# Altium footprint library Pads.PcbLib: 71 footprints (part 1 of 5)
Each footprint in its own frame and in the unit in brackets; x right, y up, seen from the top. Pads: shape width x height; smd on the part's side, far side on the other; paste and mask are expansions set on the pad; w line width, h text height; cw(c..) or ccw(c..) is an arc to the next point about the centre after c.
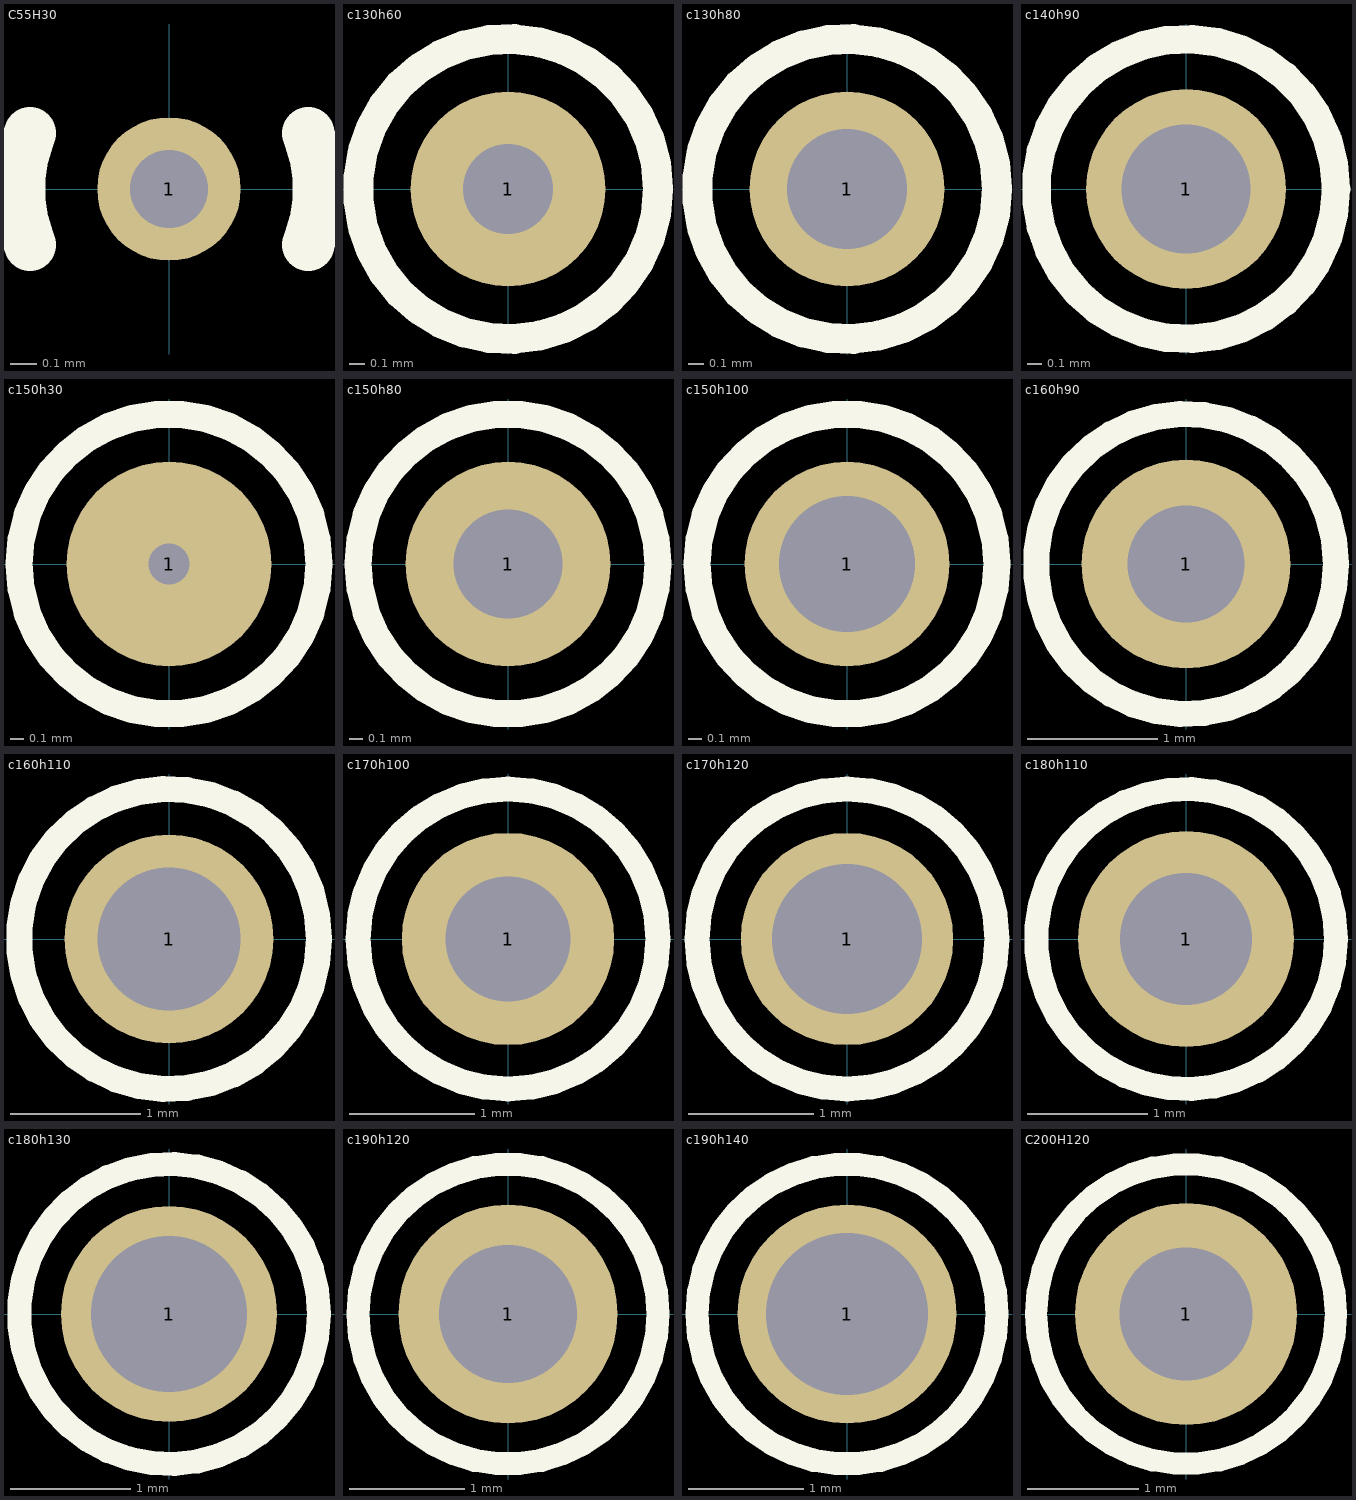
[diagram p0: the footprints below, top view; thin cyan lines are the x and y axes]

## C55H30 [mm] "Plated Through Hole: Hole Dia.=0.3mm Pad Dia.=0.55mm"
pads (1):
  round 0.55 hole 0.3: 1(0,0)
Top Overlay:
  lines w0.2: -0.534,-0.214 cw(c0,0) -0.534,0.214 ; 0.534,-0.214 ccw(c0,0) 0.534,0.214

## c130h60 [mm] "Plated Through Hole: Hole Dia.=0.6mm Pad Dia.=1.30mm"
pads (1):
  round 1.3 hole 0.6: 1(0,0)
Top Overlay:
  circle w0.2: c0,0 r1
Mechanical 14:
  circle w0.1: c0,0 r1

## c130h80 [mm] "Plated Through Hole: Hole Dia.=0.8mm Pad Dia.=1.30mm, , IPC-7251 Level C"
pads (1):
  round 1.3 hole 0.8: 1(0,0)
Top Overlay:
  circle w0.2: c0,0 r1
Mechanical 14:
  circle w0.1: c0,0 r1

## c140h90 [mm] "Plated Through Hole: Hole Dia.=0.9mm Pad Dia.=1.4mm, IPC-7251 Level C"
pads (1):
  round 1.4 hole 0.9: 1(0,0)
Top Overlay:
  circle w0.2: c0,0 r1.05
Mechanical 14:
  circle w0.1: c0,0 r1.05

## c150h30 [mm] "Plated Through Hole: Hole Dia.=0.3mm Pad Dia.=1.5mm"
pads (1):
  round 1.5 hole 0.3: 1(0,0)
Top Overlay:
  circle w0.2: c0,0 r1.1
Mechanical 14:
  circle w0.1: c0,0 r1.1

## c150h80 [mm] "Plated Through Hole: Hole Dia.=0.8mm Pad Dia.=1.50mm, , IPC-7251 Level A"
pads (1):
  round 1.5 hole 0.8: 1(0,0)
Top Overlay:
  circle w0.2: c0,0 r1.1
Mechanical 14:
  circle w0.1: c0,0 r1.1

## c150h100 [mm] "Plated Through Hole: Hole Dia.=1mm Pad Dia.=1.5mm, IPC-7251 Level C"
pads (1):
  round 1.5 hole 1: 1(0,0)
Top Overlay:
  circle w0.2: c0,0 r1.1
Mechanical 14:
  circle w0.1: c0,0 r1.1

## c160h90 [mm] "Plated Through Hole: Hole Dia.=0.9mm Pad Dia.=1.6mm, IPC-7251 Level A"
pads (1):
  round 1.6 hole 0.9: 1(0,0)
Top Overlay:
  circle w0.2: c0,0 r1.15
Mechanical 14:
  circle w0.1: c0,0 r1.15

## c160h110 [mm] "Plated Through Hole: Hole Dia.=1.1mm Pad Dia.=1.6mm, IPC-7251 Level C"
pads (1):
  round 1.6 hole 1.1: 1(0,0)
Top Overlay:
  circle w0.2: c0,0 r1.15
Mechanical 14:
  circle w0.1: c0,0 r1.15

## c170h100 [mm] "Plated Through Hole: Hole Dia.=1mm Pad Dia.=1.7mm, IPC-7251 Level A"
pads (1):
  round 1.7 hole 1: 1(0,0)
Top Overlay:
  circle w0.2: c0,0 r1.2
Mechanical 14:
  circle w0.1: c0,0 r1.2

## c170h120 [mm] "Plated Through Hole: Hole Dia.=1.2mm Pad Dia.=1.7mm, IPC-7251 Level C"
pads (1):
  round 1.7 hole 1.2: 1(0,0)
Top Overlay:
  circle w0.2: c0,0 r1.2
Mechanical 14:
  circle w0.1: c0,0 r1.2

## c180h110 [mm] "Plated Through Hole: Hole Dia.=1.1mm Pad Dia.=1.8mm, IPC-7251 Level A"
pads (1):
  round 1.8 hole 1.1: 1(0,0)
Top Overlay:
  circle w0.2: c0,0 r1.25
Mechanical 14:
  circle w0.1: c0,0 r1.25

## c180h130 [mm] "Plated Through Hole: Hole Dia.=1.3mm Pad Dia.=1.8mm, IPC-7251 Level C"
pads (1):
  round 1.8 hole 1.3: 1(0,0)
Top Overlay:
  circle w0.2: c0,0 r1.25
Mechanical 14:
  circle w0.1: c0,0 r1.25

## c190h120 [mm] "Plated Through Hole: Hole Dia.=1.2mm Pad Dia.=1.9mm, IPC-7251 Level A"
pads (1):
  round 1.9 hole 1.2: 1(0,0)
Top Overlay:
  circle w0.2: c0,0 r1.3
Mechanical 14:
  circle w0.1: c0,0 r1.3

## c190h140 [mm] "Plated Through Hole: Hole Dia.=1.4mm Pad Dia.=1.9mm, IPC-7251 Level C"
pads (1):
  round 1.9 hole 1.4: 1(0,0)
Top Overlay:
  circle w0.2: c0,0 r1.3
Mechanical 14:
  circle w0.1: c0,0 r1.3

## C200H120 [mm] "Plated Through Hole: Hole Dia.=1.2mm Pad Dia.=2.0mm"
pads (1):
  round 2 hole 1.2: 1(0,0)
Top Overlay:
  circle w0.2: c0,0 r1.35
Mechanical 14:
  circle w0.1: c0,0 r1.35